# Altium schematic symbol library ATB107M035.SchLib: 1 symbol
Pins are listed as number, name and electrical type; pins without a type are passive.

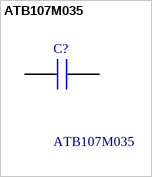
[diagram p0: symbol ATB107M035]

## ATB107M035
designator C?
Aluminum Electrolytic Capacitors - SMD 35VDC 100uF 20% 420mA a. 120Hz; Manufacturer_Name: Cornell Dubilier; Geometry.Height: 8mm; Manufacturer_Part_Number: ATB107M035; Mouser Part Number: 598-ATB107M035; Mouser Price/Stock: https://www.mouser.co.uk/ProductDetail/Cornell-Dubilier-CDE/ATB107M035?qs=lc2O%252BfHJPVYF0CZ2fG%252BHrg%3D%3D; Arrow Part Number: *; Arrow Price/Stock: *; Datasheet Link: https://www.cde.com/resources/catalogs/ATB.pdf
footprint CAPAE660X800N
pins: 1 +, 2 -